# EAGLE library part PADS_5X5 (library Pads)
5X5 pads with connections for outer pads
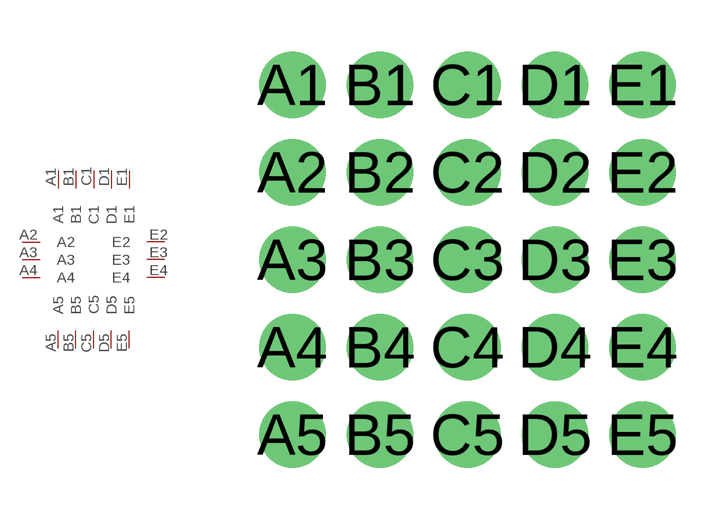
[diagram p0: symbol with the pads of PADS_5X5; footprint PADS_5X5]

Designator prefix -

## PADS_5X5  [PADS_5X5]
A1  A1
A2  A2
A3  A3
A4  A4
A5  A5
B1  B1
B5  B5
C1  C1
C5  C5
D1  D1
D5  D5
E1  E1
E2  E2
E3  E3
E4  E4
E5  E5

## Footprint PADS_5X5 (pad centres in mm)
drill 0.9 pad 1.93: A1 -5.08,5.08; A2 -5.08,2.54; A3 -5.08,0; A4 -5.08,-2.54; A5 -5.08,-5.08; B1 -2.54,5.08; B2 -2.54,2.54; B3 -2.54,0; B4 -2.54,-2.54; B5 -2.54,-5.08; C1 0,5.08; C2 0,2.54; C3 0,0; C4 0,-2.54; C5 0,-5.08; D1 2.54,5.08; D2 2.54,2.54; D3 2.54,0; D4 2.54,-2.54; D5 2.54,-5.08; E1 5.08,5.08; E2 5.08,2.54; E3 5.08,0; E4 5.08,-2.54; E5 5.08,-5.08